# Altium footprint library XDCR_110-407.PcbLib: 1 footprints
Each footprint in its own frame and in the unit in brackets; x right, y up, seen from the top. Pads: shape width x height; smd on the part's side, far side on the other; paste and mask are expansions set on the pad; w line width, h text height; cw(c..) or ccw(c..) is an arc to the next point about the centre after c.
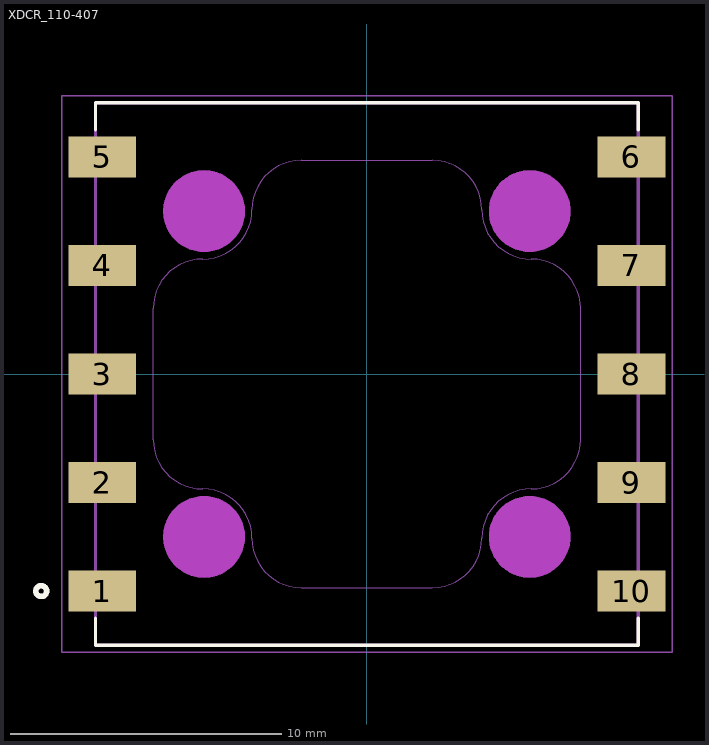
[diagram p0: the footprint, top view; thin cyan lines are the x and y axes]

## XDCR_110-407 [mm]
pads (10):
  rect 2.5x1.5 smd: 1(-9.75,-8) 2(-9.75,-4) 3(-9.75,0) 4(-9.75,4) 5(-9.75,8) 6(9.75,8) 7(9.75,4) 8(9.75,0) 9(9.75,-4) 10(9.75,-8)
Top Overlay:
  circle w0.2: c-12,-8 r0.2
  lines w0.127: -10,-9 -10,-10 10,-10 10,-9 ; -10,9 -10,10 10,10 10,9
Keep-Out Layer:
  drawing of 8 lines, arcs and shapes, not listed
Mechanical 1:
  lines w0: -7.875,-2.415 ccw(c-6.055,-2.415) -6.055,-4.235 cw(c-6.055,-6.055) -4.235,-6.055 ccw(c-2.415,-6.055) -2.415,-7.875 2.415,-7.875 ccw(c2.415,-6.055) 4.235,-6.055 cw(c6.055,-6.055) 6.055,-4.235 ccw(c6.055,-2.415) 7.875,-2.415 7.875,2.415 ccw(c6.055,2.415) 6.055,4.235 cw(c6.055,6.055) 4.235,6.055 ccw(c2.415,6.055) 2.415,7.875 -2.415,7.875 ccw(c-2.415,6.055) -4.235,6.055 cw(c-6.055,6.055) -6.055,4.235 ccw(c-6.055,2.415) -7.875,2.415 -7.875,-2.415
Mechanical 13:
  circle w0.2: c-12,-8 r0.2
  lines w0.127: -10,-10 10,-10 10,10 -10,10 -10,-10
Mechanical 15:
  drawing of 11 lines, arcs and shapes, not listed